# Altium schematic symbol library SCH - POWER - MODULE - RECOM - R-78C15-1.0.SCHLIB: 1 symbol
Pins are listed as number, name and electrical type; pins without a type are passive.

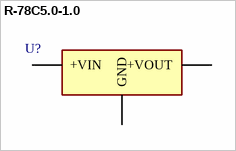
[diagram p0: symbol R-78C5.0-1.0]

## R-78C5.0-1.0
designator U?
pins: 1 +VIN (power), 2 GND, 3 +VOUT (power)